# Altium schematic symbol library SSQ-108-03-T-S.SchLib: 1 symbol
Pins are listed as number, name and electrical type; pins without a type are passive.

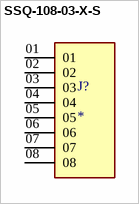
[diagram p0: symbol SSQ-108-03-X-S]

## SSQ-108-03-X-S
designator J?
MF: {'manufacturer': u'Samtec'}; MP: SSQ-108-03-X-S; Value: *; Price: None; Availability: Unavailable; Package: None
footprint SAMTEC_SSQ-108-03-X-S
pins: 01, 02, 03, 04, 05, 06, 07, 08